# Altium schematic symbol library Revo_element_shinyoon.SchLib: 2 symbols
Pins are listed as number, name and electrical type; pins without a type are passive.

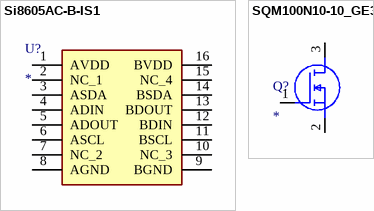
[diagram p0: symbols Si8605AC-B-IS1 to SQM100N10-10_GE3]

## Si8605AC-B-IS1
designator U?
Integrated Circuit; Manufacturer_Name: Silicon Labs; Manufacturer_Part_Number: Si8605AC-B-IS1; Datasheet Link: https://www.silabs.com/documents/public/data-sheets/Si860x.pdf; Height: 1.75mm; Mouser Part Number: 634-SI8605AC-B-IS1; Mouser Price/Stock: https://www.mouser.co.uk/ProductDetail/Silicon-Labs/SI8605AC-B-IS1/?qs=j6MGy4L9yX3YGO249YiwYg%3D%3D; Arrow Part Number: SI8605AC-B-IS1; Arrow Price/Stock: https://www.arrow.com/en/products/si8605ac-b-is1/silicon-labs
footprint SOIC127P600X175-16N
pins: 1 AVDD, 2 NC_1, 3 ASDA, 4 ADIN, 5 ADOUT, 6 ASCL, 7 NC_2, 8 AGND, 9 BGND, 10 NC_3, 11 BSCL, 12 BDIN, 13 BDOUT, 14 BSDA, 15 NC_4, 16 BVDD

## SQM100N10-10_GE3
designator Q?
MOSFET (N-Channel); Manufacturer_Name: Vishay; Manufacturer_Part_Number: SQM100N10-10_GE3; Datasheet Link: https://www.vishay.com/docs/67027/sqm100n1.pdf; Height: 4.826mm; Mouser Part Number: 78-SQM100N10-10_GE3; Mouser Price/Stock: https://www.mouser.co.uk/ProductDetail/Vishay-Siliconix/SQM100N10-10_GE3?qs=jHkklCh7amj1LC2N6oLgGw%3D%3D; Arrow Part Number: SQM100N10-10_GE3; Arrow Price/Stock: https://www.arrow.com/en/products/sqm100n10-10-ge3/vishay
footprint SUM70040EGE3
pins: 1 G, 2 S, 3 D